# Altium integrated library NSC Audio Processor.IntLib: 4 symbols
Pins are listed as number, name and electrical type; pins without a type are passive.

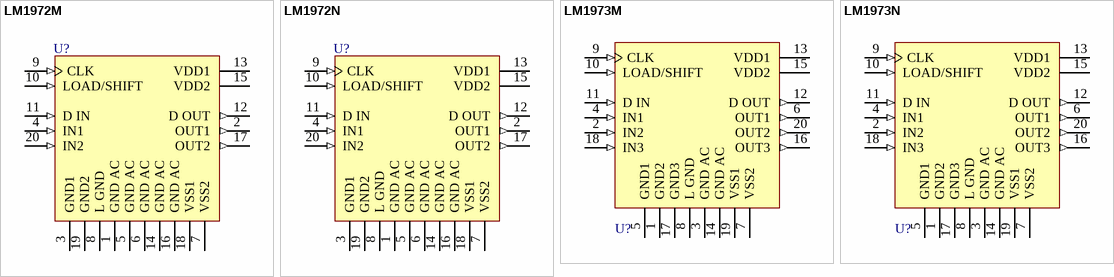
[diagram p0: symbols LM1972M to LM1973N]

## LM1972M
designator U?
µPot 2-Channel 78dB Audio Attenuator with Mute; Published: 15-Apr-2002; LatestRevisionDate: 13-Apr-2006; LatestRevisionNote: IPC-7351 Footprint Added.; DatasheetVersion: Apr-1995; PackageVersion: 2000; PackageReference: M20B; Publisher: Altium Limited; PackageDescription: 20-Pin Small Outline Integrated Circuit 1.27 mm Pitch; Code_JEDEC: MS-013-AC; Code_IPC: SOIC127P1030-20; ComponentLink1Description: Manufacturer Link; ComponentLink1URL: http://www.national.com/; ComponentLink2Description: Datasheet; ComponentLink2URL: http://www.national.com/ds.cgi/LM/LM1972.pdf; ComponentLink3Description: URL Link1; ComponentLink3URL: http://www.national.com/pf/LM/LM1972.html
footprint M20B_N (SOIC, 20-Leads, Body 12.8x7.5mm, Pitch 1.27mm, IPC Medium Density)
footprint M20B_L (SOIC, 20-Leads, Body 12.8x7.5mm, Pitch 1.27mm, IPC High Density)
footprint M20B_M (SOIC, 20-Leads, Body 12.8x7.5mm, Pitch 1.27mm, IPC Low Density)
3D model M20B (20-Pin Small Outline Integrated Circuit 1.27 mm Pitch)
pins: 1 GND AC (power), 2 OUT1 (out), 3 GND1 (power), 4 IN1 (in), 5 GND AC (power), 6 GND AC (power), 7 VSS2 (power), 8 L GND (power), 9 CLK (in), 10 LOAD/SHIFT (in), 11 D IN (in), 12 D OUT (out), 13 VDD1 (power), 14 GND AC (power), 15 VDD2 (power), 16 GND AC (power), 17 OUT2 (out), 18 VSS1 (power), 19 GND2 (power), 20 IN2 (in)

## LM1972N
designator U?
µPot 2-Channel 78dB Audio Attenuator with Mute; Published: 15-Apr-2002; LatestRevisionDate: 06-Jun-2005; LatestRevisionNote: Stylized 3D Model Added.; DatasheetVersion: Apr-1995; PackageVersion: 2000; PackageReference: N20A; Publisher: Altium Limited; PackageDescription: DIP; 20 Leads; Row Spacing 7.62 mm; Pitch 2.54 mm; Code_JEDEC: MS-001-AD; ComponentLink1Description: Manufacturer Link; ComponentLink1URL: http://www.national.com/; ComponentLink2Description: Datasheet; ComponentLink2URL: http://www.national.com/ds.cgi/LM/LM1972.pdf; ComponentLink3Description: URL Link1; ComponentLink3URL: http://www.national.com/pf/LM/LM1972.html
footprint N20A (DIP; 20 Leads; Row Spacing 7.62 mm; Pitch 2.54 mm)
3D model N20A (DIP; 20 Leads; Row Spacing 7.62 mm; Pitch 2.54 mm)
pins: 1 GND AC (power), 2 OUT1 (out), 3 GND1 (power), 4 IN1 (in), 5 GND AC (power), 6 GND AC (power), 7 VSS2 (power), 8 L GND (power), 9 CLK (in), 10 LOAD/SHIFT (in), 11 D IN (in), 12 D OUT (out), 13 VDD1 (power), 14 GND AC (power), 15 VDD2 (power), 16 GND AC (power), 17 OUT2 (out), 18 VSS1 (power), 19 GND2 (power), 20 IN2 (in)

## LM1973M
designator U?
µPot 2-Channel 78dB Audio Attenuator with Mute; Published: 15-Apr-2002; LatestRevisionDate: 13-Apr-2006; LatestRevisionNote: IPC-7351 Footprint Added.; DatasheetVersion: Dec-1994; PackageVersion: 2000; PackageReference: M20B; Publisher: Altium Limited; PackageDescription: 20-Pin Small Outline Integrated Circuit 1.27 mm Pitch; Code_JEDEC: MS-013-AC; Code_IPC: SOIC127P1030-20; ComponentLink1Description: Manufacturer Link; ComponentLink1URL: http://www.national.com/; ComponentLink2Description: Datasheet; ComponentLink2URL: http://www.national.com/ds.cgi/LM/LM1973.pdf; ComponentLink3Description: URL Link1; ComponentLink3URL: http://www.national.com/pf/LM/LM1973.html
footprint M20B_N (SOIC, 20-Leads, Body 12.8x7.5mm, Pitch 1.27mm, IPC Medium Density)
footprint M20B_L (SOIC, 20-Leads, Body 12.8x7.5mm, Pitch 1.27mm, IPC High Density)
footprint M20B_M (SOIC, 20-Leads, Body 12.8x7.5mm, Pitch 1.27mm, IPC Low Density)
3D model M20B (20-Pin Small Outline Integrated Circuit 1.27 mm Pitch)
pins: 1 GND2 (power), 2 IN2 (in), 3 GND AC (power), 4 IN1 (in), 5 GND1 (power), 6 OUT1 (out), 7 VSS2 (power), 8 L GND (power), 9 CLK (in), 10 LOAD/SHIFT (in), 11 D IN (in), 12 D OUT (out), 13 VDD1 (power), 14 GND AC (power), 15 VDD2 (power), 16 OUT3 (out), 17 GND3 (power), 18 IN3 (in), 19 VSS1 (power), 20 OUT2 (out)

## LM1973N
designator U?
µPot 2-Channel 78dB Audio Attenuator with Mute; Published: 15-Apr-2002; LatestRevisionDate: 06-Jun-2005; LatestRevisionNote: Stylized 3D Model Added.; DatasheetVersion: Dec-1994; PackageVersion: 2000; PackageReference: N20A; Publisher: Altium Limited; PackageDescription: DIP; 20 Leads; Row Spacing 7.62 mm; Pitch 2.54 mm; Code_JEDEC: MS-001-AD; ComponentLink1Description: Manufacturer Link; ComponentLink1URL: http://www.national.com/; ComponentLink2Description: Datasheet; ComponentLink2URL: http://www.national.com/ds.cgi/LM/LM1973.pdf; ComponentLink3Description: URL Link1; ComponentLink3URL: http://www.national.com/pf/LM/LM1973.html
footprint N20A (DIP; 20 Leads; Row Spacing 7.62 mm; Pitch 2.54 mm)
3D model N20A (DIP; 20 Leads; Row Spacing 7.62 mm; Pitch 2.54 mm)
pins: 1 GND2 (power), 2 IN2 (in), 3 GND AC (power), 4 IN1 (in), 5 GND1 (power), 6 OUT1 (out), 7 VSS2 (power), 8 L GND (power), 9 CLK (in), 10 LOAD/SHIFT (in), 11 D IN (in), 12 D OUT (out), 13 VDD1 (power), 14 GND AC (power), 15 VDD2 (power), 16 OUT3 (out), 17 GND3 (power), 18 IN3 (in), 19 VSS1 (power), 20 OUT2 (out)